# Altium footprint library IEAv.PcbLib: 2 footprints
Each footprint in its own frame and in the unit in brackets; x right, y up, seen from the top. Pads: shape width x height; smd on the part's side, far side on the other; paste and mask are expansions set on the pad; w line width, h text height; cw(c..) or ccw(c..) is an arc to the next point about the centre after c.
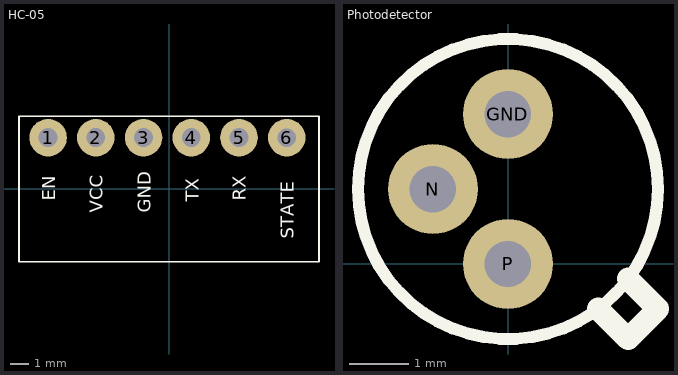
[diagram p0: the footprints below, top view; thin cyan lines are the x and y axes]

## HC-05 [mm] "BLUETOOTH MODULE"
pads (6):
  round 2 hole 1: 1(-6.447,2.734) 2(-3.907,2.734) 3(-1.367,2.734) 4(1.173,2.734) 5(3.713,2.734) 6(6.253,2.733)
Top Overlay:
  lines w0.1: -7.997,-3.87 -7.997,3.87 ; -7.971,-3.87 7.971,-3.87 7.971,3.87 -7.971,3.87
  text "GND" at -0.995,-1.261 h0.7
  text "TX" at 1.575,-0.686 h0.7
  text "RX" at 4.085,-0.626 h0.7
  text "STATE" at 6.625,-2.658 h0.7
  text "EN" at -6.075,-0.626 h0.7
  text "VCC" at -3.535,-1.261 h0.7
3D body "HC-05.STEP": height 5.56, standoff -1.24, extent -8,-32.919 8,9.906

## Photodetector [mil]
pads (3):
  round 60 hole 31: GND(0,100) N(-50,50) P(0,0)
Top Overlay:
  circle w8: c0,50 r100
  lines w15: 60,-30 80,-50 100,-30 80,-10